# Altium schematic symbol library SCH - POWER - SWITCHMODE - TI TPS62730_DRY_6.SchLib: 1 symbol
Pins are listed as number, name and electrical type; pins without a type are passive.

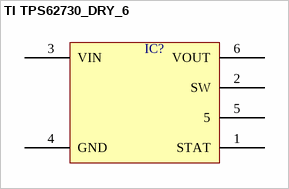
[diagram p0: symbol TI TPS62730_DRY_6]

## TI TPS62730_DRY_6
designator IC?  (value not drawn)
pins: 1 STAT, 2 SW, 3 VIN, 4 GND, 5, 6 VOUT